# Altium schematic symbol library EL.XXX.T01.SCHLIB: 178 symbols (part 1 of 3)
Pins are listed as number, name and electrical type; pins without a type are passive.

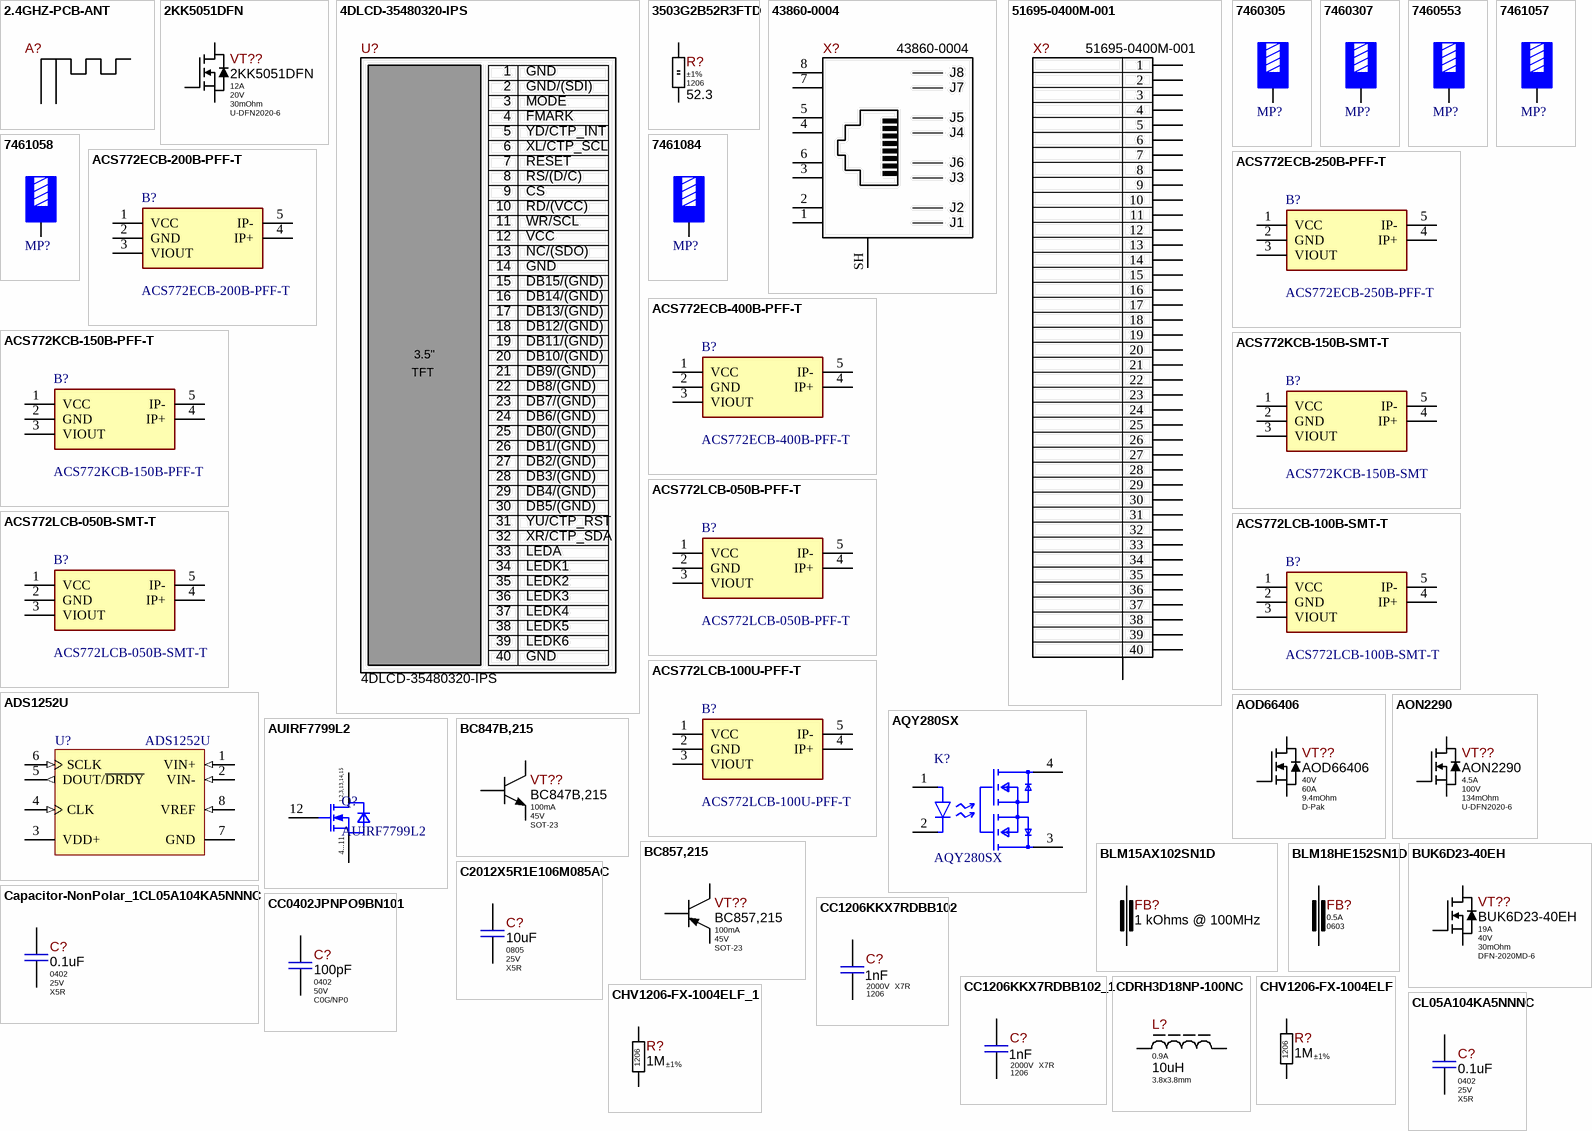
[diagram p0: symbols 2.4GHZ-PCB-ANT to CL05A104KA5NNNC]

## 2.4GHZ-PCB-ANT
designator A?, comment PCB Antenna 2.4GHz  (value not drawn)  (net tie, no BOM)
Part Number: 2.4GHZ-PCB-ANT; Replacement: NONE; Component Type: SMD; Temperature Range: NONE; ComponentLink1URL: NONE; Price: NONE; ComponentLink1Description: Datasheet
footprint PCB ANTENNA 2.4GHZ
pins: 1 FEED, 2 GND

## 2KK5051DFN
designator VT??  Id: 12A  Vds: 20V  Rds: 30mOhm  Package: U-DFN2020-6  (hidden comment: 2KK5051DFN)
20V, 12A max N-Channel Enhancement MOSFET, 12mOhm @ Vgs = 4.5V; Manufacturer: Kexin; Component Status: Released; Replacement: NONE; Part Type: N-Channel; Component Type: SMD; Temperature Range: -55°C ~ 150°C; Price: 0.04; Part Number: 2KK5051DFN
footprint U-DFN2020-6_SLDR
footprint U-DFN2020-6
pins: D Drain, G Gate, S Source

## 4DLCD-35480320-IPS
designator U?
3.5 Inch TFT LCD Module, 320x480, IPS MCU, 16-bit/SPI; Manufacturer: 4D LCD; Component Status: Review_1; Replacement: NONE; Part Type: LCD / Panel; ComponentLink1URL: https://resources.4dsystems.com.au/datasheets/4dlcd/4DLCD-35480320-IPS/4DLCD-35480320-IPS_Series_Datasheet_R_1_3.pdf; Price: NONE; ComponentLink1Description: Datasheet; Part Number: 4DLCD-35480320-IPS
footprint Dummy
text: 1; GND; 2; GND/(SDI); 3; MODE; 4; FMARK; 5; YD/CTP_INT; 6; XL/CTP_SCL; 7; RESET; 8; RS/(D/C); 9; CS; 10; RD/(VCC); 11; WR/SCL; 12; VCC; 13; NC/(SDO); 14; 15; DB15/(GND); 16; DB14/(GND); 17; DB13/(GND); 18; DB12/(GND); 19; DB11/(GND); 3.5"; 20; DB10/(GND); TFT; 21; DB9/(GND); 22; DB8/(GND); 23; DB7/(GND); 24; DB6/(GND); 25; DB0/(GND); 26; DB1/(GND); 27; DB2/(GND); 28; DB3/(GND); 29; DB4/(GND); 30; DB5/(GND); 31; YU/CTP_RST; 32; XR/CTP_SDA; 33; LEDA; 34; LEDK1; 35; LEDK2; 36; LEDK3; 37; LEDK4; 38; LEDK5; 39; LEDK6; 40

## 3503G2B52R3FTD
designator R?, comment Tolerance: ±1%  Package: 1206  (hidden comment: 52.3)
52.3 Ohms ±1%, 2 W 1206 Thin Film Resistor; Part Number: 3503G2B52R3FTD; Manufacturer: TE Connectivity; Power Rating: 2W; Voltage: 100V; Component Status: Released; Temperature Stability: ±50ppm/°C; Replacement: NONE; Component Type: SMD; Part Type: Thin Film; Temperature Range: -55°C ~ 155°C; ComponentLink1URL: https://eu.mouser.com/datasheet/2/418/9/ENG_DS_1773270_4_A-3347282.pdf; Supplier 1: Digi-Key; Supplier Part Number 1: 1712-3503G2B52R3FTDTR-ND; Price: NONE; ComponentLink1Description: Datasheet; Value: 52.3
footprint R_ANY_CHIP_1206_MED
footprint R_ANY_CHIP_1206_HI
pins: 1, 2

## 43860-0004
designator X?
RJ45 8P8C Shielded Cat 3 10 Base-T Connector; Manufacturer: Molex; Component Status: Released; Replacement: NONE; Part Type: RJ-45; Component Type: PTH; Temperature Range: -40°C ~ 85°C; ComponentLink1URL: https://www.molex.com/pdm_docs/sd/438600004_sd.pdf; Supplier 1: Mouser; Supplier Part Number 1: 538-43860-0004; Price: 2.1435; ComponentLink1Description: Datasheet; Part Number: 43860-0004
footprint 43860-0004
pins: 1 TD4-, 2 TD4+, 3 TD3-, 4 TD3+, 5 CT, 6 CT, 7 TD2-, 8 TD2+, SH Shield
text: J8; J7; J5; J4; J6; J3; J2; J1

## 51695-0400M-001
designator X?
40 pin FFC/FPC Connector, 0.50mm Pitch, 51695 Series, Right-Angle, Bottom Contact, 1.23mm Height, SMD; Manufacturer: Aces Electronics; Replacement: NONE; Part Type: FFC/FPC; Component Type: SMD; Temperature Range: -40°C ~ 85°C; Price: NONE; Part Number: 51695-0400M-001
footprint 51695-040-0M-001
pins: 1, 2, 3, 4, 5, 6, 7, 8, 9, 10, 11, 12, 13, 14, 15, 16, 17, 18, 19, 20, 21, 22, 23, 24, 25, 26, 27, 28, 29, 30, 31, 32, 33, 34, 35, 36, 37, 38, 39, 40, MP MountPad

## 7460305
designator MP?, comment M5 x 6mm  (value not drawn)
WP-BUTR REDCUBE PRESS-FIT with internal thread, two-rows, L9W9H7mm, M5 x 6mm, 160A; Manufacturer Part Number: 7460305; Manufacturer: Wurth Elektronik; Surface: Tin; ComponentLink1Description: Website Link; ComponentLink1URL: https://www.we-online.com/redexpert/article/7460305?ad; ComponentLink2Description: Datasheet Link; ComponentLink2URL: https://www.we-online.com/redexpert/spec/7460305?ad; Category: REDCUBE PRESS-FIT; Match Code: WP-BUTR; Mount: Press Fit; Operating Temperature Max: 150°C; Operating Temperature Min: -55°C; Packaging: Bulk; Length: 9mm; Width: 9mm; Height: 7mm; Material: Brass; Number of Pins: 8; Rated Current: 160A; Thread Length: 6mm; Thread Size: M5; Supplier 1: Mouser; Supplier Part Number 1: 710-7460305
footprint 7460305_chemical surface
footprint 7460305_HAL
pins: 1

## 7460307
designator MP?, comment M4 x 6mm  (value not drawn)
WP-BUTR REDCUBE PRESS-FIT with internal thread, two-rows, L9W9H7mm, M4 x 6mm, 160A; Manufacturer Part Number: 7460307; Manufacturer: Wurth Elektronik; Surface: Tin; ComponentLink1Description: Website Link; ComponentLink1URL: https://www.we-online.com/redexpert/article/7460307?ad; ComponentLink2Description: Datasheet Link; ComponentLink2URL: https://www.we-online.com/redexpert/spec/7460307?ad; Category: REDCUBE PRESS-FIT; Match Code: WP-BUTR; Mount: Press Fit; Operating Temperature Max: 150°C; Operating Temperature Min: -55°C; Packaging: Bulk; Length: 9mm; Width: 9mm; Height: 7mm; Material: Brass; Number of Pins: 8; Rated Current: 160A; Thread Length: 6mm; Thread Size: M4; Supplier 1: Mouser; Supplier Part Number 1: 710-7460307
footprint 7460307_chemical surface
footprint 7460307_HAL
pins: 1

## 7460553
designator MP?, comment M8 x 10mm  (value not drawn)
WP-BUTR REDCUBE PRESS-FIT with internal thread, two-rows, L13W13H13.5mm, M8 x 10mm, 240A; Manufacturer Part Number: 7460553; Manufacturer: Wurth Elektronik; Surface: Tin; ComponentLink1Description: Website Link; ComponentLink1URL: https://www.we-online.com/redexpert/article/7460553?ad; ComponentLink2Description: Datasheet Link; ComponentLink2URL: https://www.we-online.com/redexpert/spec/7460553?ad; Category: REDCUBE PRESS-FIT; Match Code: WP-BUTR; Mount: Press Fit; Operating Temperature Max: 150°C; Operating Temperature Min: -55°C; Packaging: Bulk; Length: 13mm; Width: 13mm; Height: 13.5mm; Material: Brass; Number of Pins: 10; Rated Current: 240A; Thread Length: 10mm; Thread Size: M8; Supplier 1: Mouser; Supplier Part Number 1: 710-7460553
footprint 7460553_chemical surface
footprint 7460553_HAL
pins: 1

## 7461057
designator MP?, comment M3 x 5mm  (value not drawn)
WP-BUTR REDCUBE PRESS-FIT with internal thread, two-rows, L7W7H6mm, M3 x 5mm, 100A; Manufacturer Part Number: 7461057; Manufacturer: Wurth Elektronik; Surface: Tin; ComponentLink1Description: Website Link; ComponentLink1URL: https://www.we-online.com/redexpert/article/7461057?ad; ComponentLink2Description: Datasheet Link; ComponentLink2URL: https://www.we-online.com/redexpert/spec/7461057?ad; Category: REDCUBE PRESS-FIT; Match Code: WP-BUTR; Mount: Press Fit; Operating Temperature Max: 150°C; Operating Temperature Min: -55°C; Packaging: Bulk; Length: 7mm; Width: 7mm; Height: 6mm; Material: Brass; Number of Pins: 6; Rated Current: 100A; Thread Length: 5mm; Thread Size: M3; Supplier 1: Mouser; Supplier Part Number 1: 710-7461057
footprint 7461057_chemical surface
footprint 7461057_HAL
pins: 1

## 7461058
designator MP?, comment M10 x 11mm  (value not drawn)
WP-BUTR REDCUBE PRESS-FIT with internal thread, two-rows, L16W16H17.5mm, M10 x 11mm, 320A; Manufacturer Part Number: 7461058; Manufacturer: Wurth Elektronik; Surface: Tin; ComponentLink1Description: Website Link; ComponentLink1URL: https://www.we-online.com/redexpert/article/7461058?ad; ComponentLink2Description: Datasheet Link; ComponentLink2URL: https://www.we-online.com/redexpert/spec/7461058?ad; Category: REDCUBE PRESS-FIT; Match Code: WP-BUTR; Mount: Press Fit; Operating Temperature Max: 150°C; Operating Temperature Min: -55°C; Packaging: Bulk; Length: 16mm; Width: 16mm; Height: 17.5mm; Material: Brass; Number of Pins: 12; Rated Current: 320A; Thread Length: 11mm; Thread Size: M10; Supplier 1: Mouser; Supplier Part Number 1: 710-7461058
footprint 7461058_chemical surface
footprint 7461058_HAL
pins: 1

## 7461084
designator MP?, comment M6 x 9mm  (value not drawn)
WP-BUTR REDCUBE PRESS-FIT with internal thread, two-rows, L10W10H13.5mm, M6 x 9mm, 160A; Manufacturer Part Number: 7461084; Manufacturer: Wurth Elektronik; Surface: Tin; ComponentLink1Description: Website Link; ComponentLink1URL: https://www.we-online.com/redexpert/article/7461084?ad; ComponentLink2Description: Datasheet Link; ComponentLink2URL: https://www.we-online.com/redexpert/spec/7461084?ad; Category: REDCUBE PRESS-FIT; Match Code: WP-BUTR; Mount: Press Fit; Operating Temperature Max: 150°C; Operating Temperature Min: -55°C; Packaging: Bulk; Length: 10mm; Width: 10mm; Height: 13.5mm; Material: Brass; Number of Pins: 8; Rated Current: 160A; Thread Length: 9mm; Thread Size: M6; Supplier 1: Mouser; Supplier Part Number 1: 710-7461084
footprint 7461084_chemical surface
footprint 7461084_HAL
pins: 1

## ACS772ECB-200B-PFF-T
designator B?
200kHz, 1.5% Max Tolerance, 100  Internal Resistance Module-alternative Current Sensor for High Current and High Voltage Applications; Current Rating: 200 A; Sensor Type: Current Sense; Accuracy: 1 %; Response Time: 2.5 us; Output Type: Analog; Supply Voltage: 4.5 V to 5.5 V; ComponentLink1Description: Datasheet; ComponentLink1URL: https://eu.mouser.com/datasheet/2/1115/ACS772_Datasheet-3074305.pdf; Part Number: ACS772ECB-200B-PFF-T; Supplier 1: Mouser; Supplier Part Number 1: 250-772ECB200BPFFT; Parameter 6: *; Parameter 7: *; Frequency Range: 200 kHz; Type: Hall-Effect
footprint ACS772KCB_XXX_PFF_T
pins: 1 VCC, 2 GND, 3 VIOUT, 4 IP+, 5 IP-

## ACS772ECB-250B-PFF-T
designator B?
200kHz, 1.5% Max Tolerance, 100  Internal Resistance Module-alternative Current Sensor for High Current and High Voltage Applications; Current Rating: 250 A; Sensor Type: Current Sense; Accuracy: 1 %; Response Time: 2.5 us; Output Type: Analog; Supply Voltage: 4.5 V to 5.5 V; ComponentLink1Description: Datasheet; ComponentLink1URL: https://eu.mouser.com/datasheet/2/1115/ACS772_Datasheet-3074305.pdf; Part Number: ACS772ECB-250B-PFF-T; Supplier 1: Mouser; Supplier Part Number 1: 250-CS772ECB250BPFFT; Parameter 6: *; Parameter 7: *; Frequency Range: 200 kHz; Type: Hall-Effect
footprint ACS772KCB_XXX_PFF_T
pins: 1 VCC, 2 GND, 3 VIOUT, 4 IP+, 5 IP-

## ACS772ECB-400B-PFF-T
designator B?
200kHz, 1.5% Max Tolerance, 100  Internal Resistance Module-alternative Current Sensor for High Current and High Voltage Applications; Current Rating: 400 A; Sensor Type: Current Sense; Accuracy: 1 %; Response Time: 2.5 us; Output Type: Analog; Supply Voltage: 4.5 V to 5.5 V; ComponentLink1Description: Datasheet; ComponentLink1URL: https://eu.mouser.com/datasheet/2/1115/ACS772_Datasheet-3074305.pdf; Part Number: ACS772ECB-400B-PFF-T; Supplier 1: Mouser; Supplier Part Number 1: 250-772ECB400BPFFT; Parameter 6: *; Parameter 7: *; Frequency Range: 200 kHz; Type: Hall-Effect
footprint ACS772KCB_XXX_PFF_T
pins: 1 VCC, 2 GND, 3 VIOUT, 4 IP+, 5 IP-

## ACS772KCB-150B-PFF-T
designator B?
200kHz, 1.5% Max Tolerance, 100  Internal Resistance Module-alternative Current Sensor for High Current and High Voltage Applications; Current Rating: 150 A; Sensor Type: Current Sense; Accuracy: 1 %; Response Time: 2.5 us; Output Type: Analog; Supply Voltage: 4.5 V to 5.5 V; ComponentLink1Description: Datasheet; ComponentLink1URL: https://eu.mouser.com/datasheet/2/1115/ACS772_Datasheet-3074305.pdf; Part Number: ACS772KCB-150B-PFF-T; Supplier 1: Mouser; Supplier Part Number 1: 250-772KCB150BPFFT; Parameter 6: *; Parameter 7: *; Frequency Range: 200 kHz; Type: Hall-Effect
footprint ACS772KCB_XXX_PFF_T
pins: 1 VCC, 2 GND, 3 VIOUT, 4 IP+, 5 IP-

## ACS772KCB-150B-SMT-T
designator B?, comment ACS772KCB-150B-SMT
200kHz, 1.5% Max Tolerance, 100  Internal Resistance Module-alternative Current Sensor for High Current and High Voltage Applications; Part Number: ACS772KCB-150B-SMT-T; Current Rating: 150 A; Sensor Type: Current Sense; Accuracy: 1 %; Response Time: 2.5 us; Output Type: Analog; Supply Voltage: 4.5 V to 5.5 V; ComponentLink1Description: Datasheet; ComponentLink1URL: https://eu.mouser.com/datasheet/2/1115/ACS772_Datasheet-3074305.pdf; Supplier 1: Mouser; Supplier Part Number 1: 250-772KCB150BSMTT; Parameter 6: *; Parameter 7: *; Frequency Range: 200 kHz; Type: Hall-Effect
footprint ACS772KCB_XXX_SMT_T
pins: 1 VCC, 2 GND, 3 VIOUT, 4 IP+, 5 IP-

## ACS772LCB-050B-PFF-T
designator B?
200kHz, 1.5% Max Tolerance, 100  Internal Resistance Module-alternative Current Sensor for High Current and High Voltage Applications; Current Rating: 50 A; Sensor Type: Current Sense; Accuracy: 1 %; Response Time: 2.5 us; Output Type: Analog; Supply Voltage: 4.5 V to 5.5 V; ComponentLink1Description: Datasheet; ComponentLink1URL: https://eu.mouser.com/datasheet/2/1115/ACS772_Datasheet-3074305.pdf; Part Number: ACS772LCB-050B-PFF-T; Supplier 1: Mouser; Supplier Part Number 1: 250-772LCB050BPFFT; Parameter 6: *; Parameter 7: *; Frequency Range: 200 kHz; Type: Hall-Effect
footprint ACS772KCB_XXX_PFF_T
pins: 1 VCC, 2 GND, 3 VIOUT, 4 IP+, 5 IP-

## ACS772LCB-050B-SMT-T
designator B?
200kHz, 1.5% Max Tolerance, 100  Internal Resistance Module-alternative Current Sensor for High Current and High Voltage Applications; Current Rating: 50 A; Sensor Type: Current Sense; Accuracy: 1 %; Response Time: 2.5 us; Output Type: Analog; Supply Voltage: 4.5 V to 5.5 V; ComponentLink1Description: Datasheet; ComponentLink1URL: https://eu.mouser.com/datasheet/2/1115/ACS772_Datasheet-3074305.pdf; Part Number: ACS772LCB-050B-SMT-T; Supplier 1: Mouser; Supplier Part Number 1: 250-772LCB050BSMTT; Parameter 6: *; Parameter 7: *; Frequency Range: 200 kHz; Type: Hall-Effect
footprint ACS772KCB_XXX_SMT_T
pins: 1 VCC, 2 GND, 3 VIOUT, 4 IP+, 5 IP-

## ACS772LCB-100B-SMT-T
designator B?
200kHz, 1.5% Max Tolerance, 100  Internal Resistance Module-alternative Current Sensor for High Current and High Voltage Applications; Part Number: ACS772KCB-150B-SMT-T; Current Rating: 100 A; Sensor Type: Current Sense; Accuracy: 1 %; Response Time: 2.5 us; Output Type: Analog; Supply Voltage: 4.5 V to 5.5 V; ComponentLink1Description: Datasheet; ComponentLink1URL: https://eu.mouser.com/datasheet/2/1115/ACS772_Datasheet-3074305.pdf; Supplier 1: Mouser; Supplier Part Number 1: 250-772LCB100BSMTT; Parameter 6: *; Parameter 7: *; Frequency Range: 200 kHz; Type: Hall-Effect
footprint ACS772KCB_XXX_SMT_T
pins: 1 VCC, 2 GND, 3 VIOUT, 4 IP+, 5 IP-

## ACS772LCB-100U-PFF-T
designator B?
200kHz, 1.5% Max Tolerance, 100  Internal Resistance Module-alternative Current Sensor for High Current and High Voltage Applications; Current Rating: 100 A; Sensor Type: Current Sense; Accuracy: 1 %; Response Time: 2.5 us; Output Type: Analog; Supply Voltage: 4.5 V to 5.5 V; ComponentLink1Description: Datasheet; ComponentLink1URL: https://eu.mouser.com/datasheet/2/1115/ACS772_Datasheet-3074305.pdf; Part Number: ACS772LCB-100U-PFF-T; Supplier 1: Mouser; Supplier Part Number 1: 250-772LCB100UPFFT; Parameter 6: *; Parameter 7: *; Frequency Range: 200 kHz; Type: Hall-Effect
footprint ACS772KCB_XXX_SMT_T
pins: 1 VCC, 2 GND, 3 VIOUT, 4 IP+, 5 IP-

## ADS1252U
designator U?
ResolutionPlus 24-Bit, 40 kHz ADC, -40 to 85 degC, 8-pin SOIC (D8), Green (RoHS & no Sb/Br); Manufacturer: Texas Instruments; Analog Voltage AV/DD(Max)(V): 5.25; # Input Channels: 1; Architecture: Delta-Sigma; Sample Rate (max)(SPS): 41k; Digital Supply(Min)(V): 4.75; Resolution(Bits): 24; Interface: Serial SPI; SubFamily: Precision ADC (<=10MSPS); ComponentLink1URL: http://www.ti.com/; Code_JEDEC: MS-012; ComponentLink3Description: Package Specification; PackageVersion: 4040047-3/M, 06/2011; PackageReference: D8; ComponentLink2URL: http://www.ti.com/general/docs/lit/getliterature.tsp?genericPartNumber=ADS1252&fileType=pdf; INL(Max)(+/-LSB): 1; DatasheetVersion: SBAS127D; ComponentLink3URL: http://www.ti.com/litv/pdf/msoi002j; Mounting Technology: Surface Mount; ComponentLink1Description: Manufacturer URL; PackageDescription: 8-Pin Plastic Small Outline, Body 4.9 x 3.9 mm, Pitch 1.27 mm; PartNumber: ADS1252U; Analog Voltage AV/DD(Min)(V): 4.75; ComponentLink2Description: Datasheet; Eco-Plan: Green (RoHS & no Sb/Br); Digital Supply(Max)(V): 5.25; Part Number: ADS1252U; Supplier 1: Mouser; Supplier Part Number 1: 595-ADS1252U
footprint TI-D8_M (SOIC, 8-Leads, Body 4.9x3.9mm, Pitch 1.27mm, IPC Low Density)
footprint TI-D8_L (SOIC, 8-Leads, Body 4.9x3.9mm, Pitch 1.27mm, IPC High Density)
footprint TI-D8_N (SOIC, 8-Leads, Body 4.9x3.9mm, Pitch 1.27mm, IPC Medium Density)
footprint TI-D8_M
pins: 1 VIN+ (in) "Analog Input: Positive Input of the Differential Analog Input", 2 VIN- (in) "Analog Input: Negative Input of the Differential Analog Input.", 3 VDD+ (power) "Input: Power-Supply Voltage, +5V", 4 CLK (in) "Digital Input: Device System Clock. The system clock is in the form of a CMOScompatible clock. This is a Schmitt-Trigger input.", 5 DOUT/~{DRDY} (out), 6 SCLK (in) "Digital Input: Serial Clock. The serial clock is in the form of a CMOS-compatible clock. The serial clock operates independently from the system clock, therefore, it is possible to run SCLK at a higher frequency than CLK. (See Datasheet)", 7 GND (power) "Input: Ground", 8 VREF (in) "Analog Input: Reference Voltage Input"

## AOD66406
designator VT??  Vds: 40V  Id: 60A  Rds: 9.4mOhm  Package: D-Pak  (hidden comment: AOD66406)
40V, 60A max N-Channel AlphaSGT Power MOSFET, 6.1mOhm @ Vgs = 10V; Manufacturer: Alpha & Omega Semiconductor Inc.; Component Status: Released; Standard Lead Time: 16 Weeks; Replacement: NONE; Part Number: AOD66406; Part Type: N-Channel; Component Type: SMD; Temperature Range: -55°C ~ 150°C; ComponentLink1URL: https://www.aosmd.com/res/datasheets/AOI66406.pdf; Supplier 1: Digi-Key; Supplier Part Number 1: 785-AOD66406TR-ND; Price: 0.14350545; ComponentLink1Description: Datasheet
footprint DPAK_REC
footprint DPAK
pins: 1 G, 2 D, 3 S

## AON2290
designator VT??  Id: 4.5A  Vds: 100V  Rds: 134mOhm  Package: U-DFN2020-6  (hidden comment: AON2290)
100V, 4.5A max N-Channel AdvancedTrench MOSFET, 59mOhm @ Vgs = 10V; Manufacturer: Alpha & Omega Semiconductor Inc.; Component Status: Review_1; Standard Lead Time: 42 Weeks; Replacement: NONE; Part Number: AON2290; Part Type: N-Channel; Component Type: SMD; Temperature Range: -55°C ~ 150°C; Supplier 1: Digi-Key; Supplier Part Number 1: 785-1606-2-ND; Price: 0.08707521
footprint U-DFN2020-6-HV
pins: D Drain, G Gate, S Source

## AQY280SX
designator K?
AQY280SX AQY Photomos Series 120 mA 350 V 25 Ohm SMT 1 Channel Solid State Relay -SOP-4; NexarPartId: 695349; Output Current: 120mA; Throw Configuration: DPST, SPST; Resistance: 25Ω; Max Input Current: 50mA; Max Output Voltage: 350V; Isolation Voltage: 1.5kV; Termination: Gull Wing; Number of Pins: 4; Max Output Current: 120mA; RoHS: Compliant; Mount: Surface Mount; Radiation Hardening: No; Max Operating Temperature: 85°C; Height: 2.1mm; Case/Package: SOP; Forward Current: 50mA; Input Current: 50mA; Lead Free: Lead Free; Length: 4.4mm; Width: 4.3mm; Min Operating Temperature: -40°C; Output Voltage: 350V; Relay Type: Relay; Load Current: 120mA; Part Number: AQY280SX; Supplier 1: Mouser; Supplier Part Number 1: 769-AQY280SX
footprint FP-AQY280SX-MFG (AQY Photomos Series 120 mA 350 V 25 Ohm SMT 1 Channel Solid State Relay -SOP-4)
pins: 1 A, 2 C, 3 1 DRAIN, 4 2 DRAIN

## AUIRF7799L2
designator Q?
Insulated-Gate Field-Effect Transistor (IGFET), N-Channel / MOSFETs DirectFET 2 250V 35A 38mOhm Automotive; Part Number: AUIRF7799L2TR; Manufacturer: Infineon; Rds On: 32 mOhm; Qg: 110 nC; Vgs: - 30 V, + 30 V; Vgs th: 4 V; Pd: 125; Max T: 175 C; Turn-On Delay: 36.3 ns; Turn-Off Delay: 73.9 ns; ComponentLink1Description: Datasheet; ComponentLink1URL: https://eu.mouser.com/datasheet/2/196/auirf7799l2-1730908.pdf; Supplier 1: Mouser; Supplier Part Number 1: 942-AUIRF7799L2TR; Product Category: MOSFETs; Transistor Polarity: N-Channel; Mounting Style: SMD/SMT; Package/Case: DirectFET-L8; Vds: 250V; Id: 35A
footprint DIRECTFET-L8-V
pins: 1 DRAIN1, 2 DRAIN2, 3 DRAIN3, 4 SOURCE1, 5 SOURCE2, 6 SOURCE3, 7 SOURCE4, 8 SOURCE5, 9 SOURCE6, 10 SOURCE7, 11 SOURCE8, 12 GATE, 13 DRAIN4, 14 DRAIN5, 15 DRAIN6
text: 1,2,3,13,14,15; 4...11

## BC847B,215
designator VT??, comment Part Number: BC847B,215  Ic: 100mA  Vce: 45V  Package: SOT-23  (hidden comment: BC847B)
45V, 100mA NPN General Purpose Transistor; Manufacturer: Nexperia USA; Component Status: Released; Standard Lead Time: 4 Weeks; Replacement: NONE; Part Type: NPN; Component Type: SMD; Temperature Range: -65°C ~ 150°C; ComponentLink1URL: https://assets.nexperia.com/documents/data-sheet/BC847_SER.pdf; Supplier 1: Digi-Key; Supplier Part Number 1: 1727-2921-2-ND; Price: 0.02426013; ComponentLink1Description: Datasheet
footprint SOT-23_MED
footprint SOT-23_HI
pins: 1 B, 2 E, 3 C

## BC857,215
designator VT??, comment Part Number: BC857,215  Ic: 100mA  Vce: 45V  Package: SOT-23  (hidden comment: BC857)
-45V, 100mA PNP General Purpose Transistor, hFE 125 ~ 800; Manufacturer: Nexperia USA; Component Status: Released; Standard Lead Time: 16 Weeks; Replacement: NONE; Part Type: PNP; Component Type: SMD; Temperature Range: -65°C ~ 150°C; ComponentLink1URL: https://assets.nexperia.com/documents/data-sheet/BC856_BC857_BC858.pdf; Supplier 1: Digi-Key; Supplier Part Number 1: 1727-4872-2-ND; Price: 0.04; ComponentLink1Description: Datasheet
footprint SOT-23_MED
footprint SOT-23_HI
pins: 1 B, 2 E, 3 C

## BLM15AX102SN1D
designator FB?  value 1 kOhms @ 100MHz  (hidden comment: BLM15AX102SN1D)
1 kOhms @ 100MHz Ferrite Bead 0402, 350mA 490mOhm; Manufacturer: Murata Electronics; Current: 0.35A; Saturation Current: NONE; Tolerance: ±25%; Standard Lead Time: 7 Weeks; Component Status: Released; Package: 0402; Part Number: BLM15AX102SN1D; Part Type: Ferrite Bead; Component Type: SMD; Temperature Range: -55°C ~ 125°C; ComponentLink1URL: https://www.murata.com/en-us/products/productdata/8796740059166/ENFA0018.pdf; Supplier 1: Digi-Key; Supplier Part Number 1: 490-5442-2-ND; Replacement: NONE; Price: 0.00265; ComponentLink1Description: Datasheet
footprint BLM15xxxxxSN1x_MED
footprint BLM15xxxxxSN1x_HI
pins: 1, 2

## BLM18HE152SN1D
designator FB?  Current: 0.5A  Package: 0603  (hidden comment: BLM18HE152SN1D)
1.5 kOhms @ 100MHz 1 Signal Line Ferrite Bead 0603, 500mA 500mOhm; Manufacturer: Murata Electronics; Saturation Current: NONE; Tolerance: ±25%; Standard Lead Time: 8 Weeks; Component Status: Released; Value: 1.5 kOhms @ 100MHz; Part Number: BLM18HE152SN1D; Part Type: Ferrite Bead; Component Type: SMD; Temperature Range: -55°C ~ 125°C; ComponentLink1URL: https://www.murata.com/en-us/products/productdata/8796741599262/ENFA0004.pdf; Supplier 1: Digi-Key; Supplier Part Number 1: 490-5216-2-ND; Replacement: NONE; Price: 0.01416; ComponentLink1Description: Datasheet
footprint BLM18HxxxxSN1x_MED
footprint BLM18HxxxxSN1x_HI
pins: 1, 2

## BUK6D23-40EH
designator VT??  Id: 19A  Vds: 40V  Rds: 30mOhm  Package: DFN-2020MD-6  (hidden comment: BUK6D23-40EH)
40V, 19A max N-Channel Trench MOSFET, 22mOhm @ Vgs = 4.5V; Manufacturer: Nexperia USA; Component Status: Released; Standard Lead Time: 8 Weeks; Replacement: NONE; Part Number: BUK6D23-40EH; Part Type: N-Channel; Component Type: SMD; Temperature Range: -55°C ~ 175°C; ComponentLink1URL: https://eu.mouser.com/datasheet/2/916/BUK6D23_40E-1318709.pdf; Supplier 1: Mouser; Supplier Part Number 1: 771-BUK6D23-40EH; Price: NONE; ComponentLink1Description: Datasheet
footprint U-DFN2020-6_SLDR
footprint U-DFN2020-6
pins: D Drain, G Gate, S Source

## C2012X5R1E106M085AC
designator C?, comment Package: 0805  Voltage: 25V  Dielectric Type: X5R  (hidden comment: 10uF)
10uF 25V X5R ±20% 0805 Ceramic Capacitor RoHS; Part Number: C2012X5R1E106M085AC; Manufacturer: TDK Corporation; Standard Lead Time: 12 Weeks; Component Status: Released; Replacement: NONE; Ajax_1С_Lifecycle: Archived; Part Type: Ceramic / X5R / 0805; Component Type: SMD; Temperature Range: -55°C ~ 85°C; Tolerance: ±20%; ComponentLink1URL: https://product.tdk.com/info/en/catalog/datasheets/mlcc_commercial_general_en.pdf; Supplier 1: Digi-Key; Supplier Part Number 1: 445-14388-1-ND; ComponentLink1Description: Datasheet; Price: 0.185; Value: 10uF
footprint CAP-0805(2012)X85T10
pins: 1, 2

## Capacitor-NonPolar_1CL05A104KA5NNNC
designator C?, comment Package: 0402  Voltage: 25V  Dielectric Type: X5R  (hidden comment: 0.1uF)
100nF 25V X5R ±10% 0402 Ceramic Capacitor RoHS; Part Number: CL05A104KA5NNNC; Manufacturer: Samsung Electro-Mechanics; Ajax_1C_ID: 27170; Ajax_1C_PN: 100nF 25V X5R 10% 0402 CL05A104KA5NNNC Ceramic Capacitor SMD RoHS; Standard Lead Time: 38 Weeks; Replacement: NONE; Ajax_1С_Status: Mass Production; Component Status: Released; GUID_1C: 6c9121f0-7733-11eb-ab70-0050569f2651; Part Type: Ceramic / X5R / 0402; Component Type: SMD; Temperature Range: -55°C ~ 85°C; Tolerance: ±10%; ComponentLink1URL: https://eu.mouser.com/datasheet/2/585/MLCC-1837944.pdf; Supplier 1: Mouser; Supplier Part Number 1: 187-CL05A104KA5NNNC; ComponentLink1Description: Datasheet; Price: 0.0013; Value: 0.1uF
footprint C_CERAMIC_0402_MED
footprint C_CERAMIC_0402_HI
pins: 1, 2

## CC0402JPNPO9BN101
designator C?, comment Package: 0402  Voltage: 50V  Dielectric Type: C0G/NP0  (hidden comment: 100pF)
100pF 50V C0G ±5% 0402 Ceramic Capacitor RoHS; Part Number: CC0402JPNPO9BN101; Manufacturer: Yageo; Standard Lead Time: 12 Weeks; Component Status: Released; Replacement: NONE; Part Type: Ceramic / C0G(NP0) / 0402; Component Type: SMD; Temperature Range: -55°C ~ 125°C; Tolerance: ±5%; ComponentLink1URL: https://eu.mouser.com/datasheet/2/447/UPY_NP0X5R_01005_4V_to_25V_V10-3003057.pdf; Supplier 1: Mouser; Supplier Part Number 1: 603-CC402JPNPO9BN101; Price: 0.00092012; ComponentLink1Description: Datasheet; Value: 100pF
footprint C_CERAMIC_0402_MED
footprint C_CERAMIC_0402_HI
pins: 1, 2

## CC1206KKX7RDBB102
designator C?, comment Package: 1206  Voltage: 2000V  Dielectric Type: X7R  (hidden comment: 1nF)
1nF 2000V X7R ±10% 1206 Ceramic Capacitor RoHS; Part Number: CC1206KKX7RDBB102; Manufacturer: Yageo; Replacement: NONE; Part Type: Ceramic / X7R / 1206; Component Type: SMD; Temperature Range: -55°C ~ 125°C; Tolerance: ±10%; ComponentLink1URL: https://www.yageo.com/upload/media/product/products/datasheet/mlcc/UPY-NP0X7R_HV_1KV-to-3KV_11.pdf; Supplier 1: Digi-Key; Supplier Part Number 1: 311-1487-2-ND; ComponentLink1Description: Datasheet; Value: 1nF
footprint CAP-1206(3216)X125T20
pins: 1, 2

## CC1206KKX7RDBB102_1
designator C?, comment Package: 1206  Voltage: 2000V  Dielectric Type: X7R  (hidden comment: 1nF)
1nF 2000V X7R ±10% 1206 Ceramic Capacitor RoHS; Part Number: CC1206KKX7RDBB102; Manufacturer: Yageo; Replacement: NONE; Part Type: Ceramic / X7R / 1206; Component Type: SMD; Temperature Range: -55°C ~ 125°C; Tolerance: ±10%; ComponentLink1URL: https://www.yageo.com/upload/media/product/products/datasheet/mlcc/UPY-NP0X7R_HV_1KV-to-3KV_11.pdf; Supplier 1: Digi-Key; Supplier Part Number 1: 311-1487-2-ND; ComponentLink1Description: Datasheet; Value: 1nF
footprint CAP-1206(3216)X125T20
pins: 1, 2

## CDRH3D18NP-100NC
designator L?, comment Current: 0.9A  Package: 3.8x3.8mm  (hidden comment: 10uH)
10uH Shielded Power Inductor 900mA 205mOhm Max Nonstandard; Part Number: CDRH3D18NP-100NC; Manufacturer: Sumida; Tolerance: ±30%; Component Status: Released; Standard Lead Time: 28 Weeks; Replacement: NONE; Part Type: Power / Ferrite Core; Saturation Current: 0.9A; Component Type: SMD; Temperature Range: -40°C ~ 105°C; ComponentLink1URL: http://products.sumida.com/products/pdf/CDRH3D18.pdf; Supplier 1: Digi-Key; Supplier Part Number 1: 308-1954-6-ND; Price: 0.19; ComponentLink1Description: Datasheet; Value: 10uH
footprint CDRH3D18
footprint CDRH3D18X
pins: 1, 2

## CHV1206-FX-1004ELF
designator R?, comment Tolerance: ±1%  Package: 1206  (hidden comment: 1M)
1 MOhms ±1%, 1/4W 1206 Thick Film Resistor; Part Number: CHV1206-FX-1004ELF; Manufacturer: Bourns; Power Rating: 0.25W; Voltage: 800V; Component Status: Released; Temperature Stability: ±100ppm/°C; Replacement: NONE; Component Type: SMD; Part Type: Thick Film; Temperature Range: -55°C ~ 155°C; ComponentLink1URL: https://eu.mouser.com/datasheet/2/54/CHV-777595.pdf; Supplier 1: Mouser; Supplier Part Number 1: 652-CHV1206FX1004ELF; Price: 0.0173216; ComponentLink1Description: Datasheet; Value: 1M
footprint CHV1206-Series
footprint R_ANY_CHIP_1206_MED
pins: 1, 2

## CHV1206-FX-1004ELF_1
designator R?, comment Tolerance: ±1%  Package: 1206  (hidden comment: 1M)
1 MOhms ±1%, 1/4W 1206 Thick Film Resistor; Part Number: CHV1206-FX-1004ELF; Manufacturer: Bourns; Power Rating: 0.25W; Voltage: 800V; Component Status: Released; Temperature Stability: ±100ppm/°C; Replacement: NONE; Component Type: SMD; Part Type: Thick Film; Temperature Range: -55°C ~ 155°C; ComponentLink1URL: https://eu.mouser.com/datasheet/2/54/CHV-777595.pdf; Supplier 1: Mouser; Supplier Part Number 1: 652-CHV1206FX1004ELF; Price: 0.0173216; ComponentLink1Description: Datasheet; Value: 1M
footprint CHV1206-Series
footprint R_ANY_CHIP_1206_MED
pins: 1, 2

## CL05A104KA5NNNC
designator C?, comment Package: 0402  Voltage: 25V  Dielectric Type: X5R  (hidden comment: 0.1uF)
100nF 25V X5R ±10% 0402 Ceramic Capacitor RoHS; Part Number: CL05A104KA5NNNC; Manufacturer: Samsung Electro-Mechanics; Standard Lead Time: 38 Weeks; Component Status: Released; Replacement: NONE; Part Type: Ceramic / X5R / 0402; Component Type: SMD; Temperature Range: -55°C ~ 85°C; Tolerance: ±10%; ComponentLink1URL: https://eu.mouser.com/datasheet/2/585/MLCC-1837944.pdf; ComponentLink1Description: Datasheet; Price: 0.0013; Supplier 1: Mouser; Supplier Part Number 1: 187-CL05A104KA5NNNC; Value: 0.1uF
footprint C_CERAMIC_0402_MED
footprint C_CERAMIC_0402_HI
pins: 1, 2

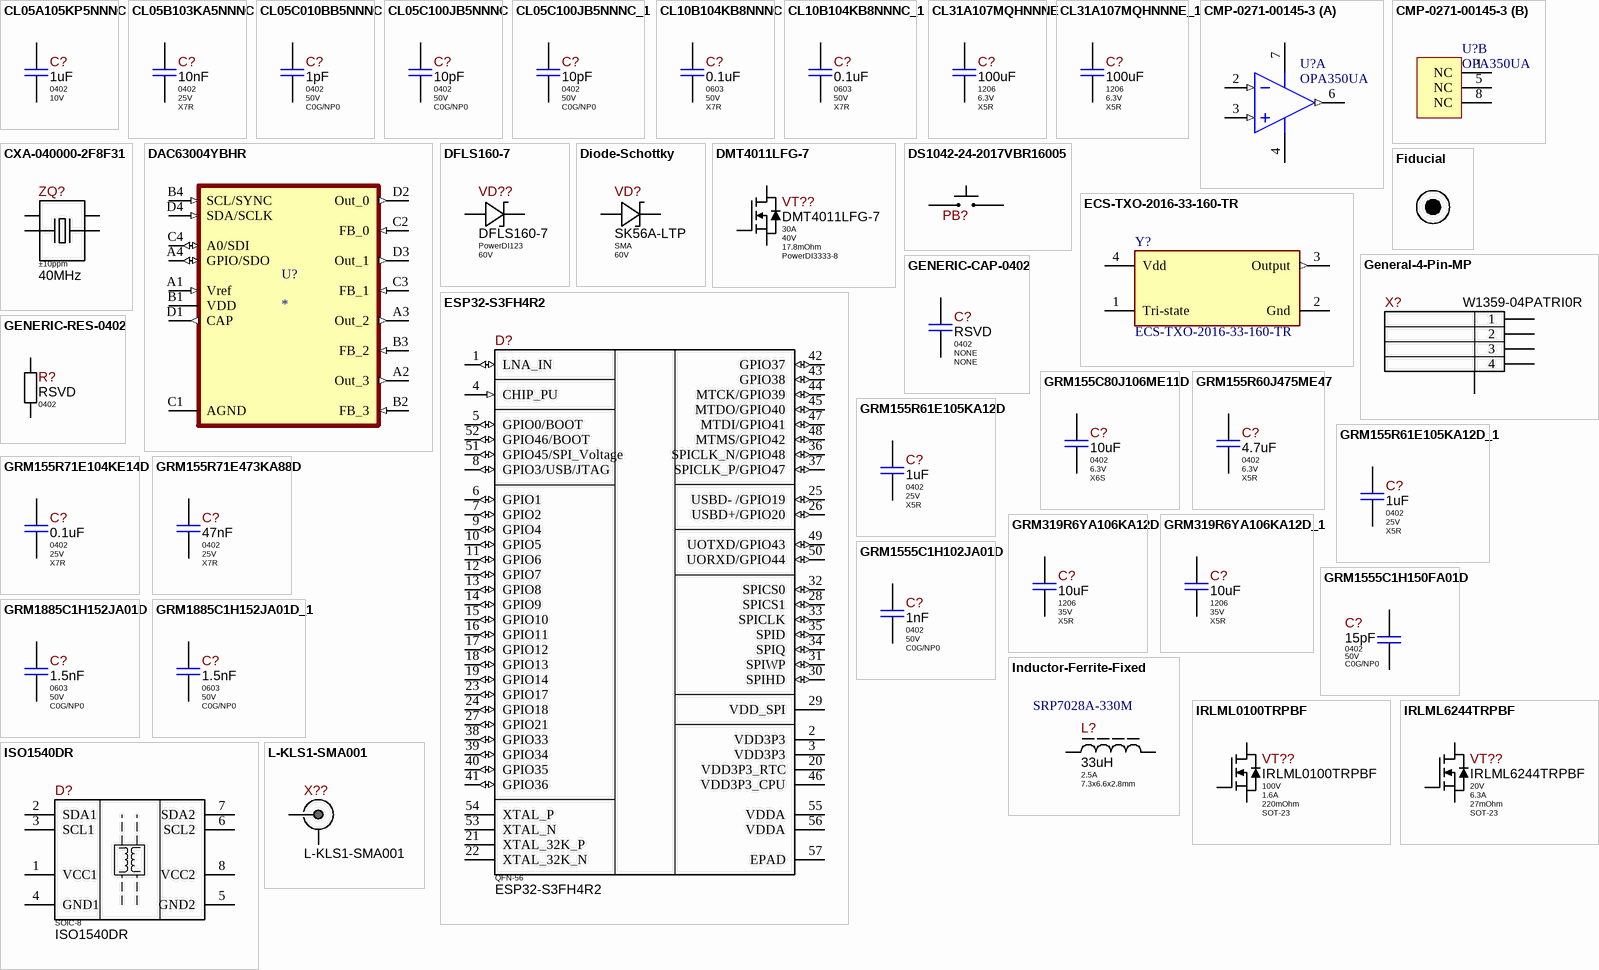
[diagram p1: symbols CL05A105KP5NNNC to L-KLS1-SMA001]

## CL05A105KP5NNNC
designator C?, comment Package: 0402  Voltage: 10V  (hidden comment: 1uF)
1uF 10V Х5R ±10% 0402 Ceramic Capacitor RoHS; Part Number: CL05A105KP5NNNC; Manufacturer: Samsung Electro-Mechanics; Dielectric Type: X5R; Standard Lead Time: 18 Weeks; Replacement: NONE; Component Status: Released; Part Type: Ceramic / X5R / 0402; Component Type: SMD; Temperature Range: -55°C ~ 85°C; Tolerance: ±10%; ComponentLink1URL: https://media.digikey.com/pdf/Data%20Sheets/Samsung%20PDFs/CL_Series_MLCC_ds.pdf; Supplier 1: Digi-Key; Supplier Part Number 1: 1276-1076-2-ND; ComponentLink1Description: Datasheet; Price: 0.00141; Value: 1uF
footprint C_CERAMIC_0402_MED
footprint C_CERAMIC_0402_HI
pins: 1, 2

## CL05B103KA5NNNC
designator C?, comment Package: 0402  Voltage: 25V  Dielectric Type: X7R  (hidden comment: 10nF)
10nF 25V X7R ±10% 0402 Ceramic Capacitor RoHS; Part Number: CL05B103KA5NNNC; Manufacturer: Samsung Electro-Mechanics; Component Status: Released; Standard Lead Time: 28 Weeks; Replacement: NONE; Part Type: Ceramic / X7R / 0402; Component Type: SMD; Temperature Range: -55°C ~ 125°C; Tolerance: ±10%; ComponentLink1URL: https://eu.mouser.com/datasheet/2/585/MLCC-1837944.pdf; Supplier 1: Mouser; Supplier Part Number 1: 187-CL05B103KA5NNNC; Price: 0.00145; ComponentLink1Description: Datasheet; Value: 10nF
footprint C_CERAMIC_0402_MED
footprint C_CERAMIC_0402_HI
pins: 1, 2

## CL05C010BB5NNNC
designator C?, comment value 1pF  Package: 0402  Voltage: 50V  Dielectric Type: C0G/NP0  (hidden comment: 1.0pF)
1.0pF 50V NP0 ±0.1pF 0402 Ceramic Capacitor RoHS; Part Number: CL05C010BB5NNNC; Manufacturer: Samsung Electro-Mechanics; Standard Lead Time: 22 Weeks; Replacement: NONE; Component Status: Released; Part Type: Ceramic / C0G(NP0) / 0402; Component Type: SMD; Temperature Range: -55°C ~ 125°C; Tolerance: ±0.1pF; ComponentLink1URL: https://media.digikey.com/pdf/Data%20Sheets/Samsung%20PDFs/CL_Series_MLCC_ds.pdf; Supplier 1: Digi-Key; Supplier Part Number 1: 1276-1237-2-ND; Price: 0,00237556; ComponentLink1Description: Datasheet
footprint C_CERAMIC_0402_MED
footprint C_CERAMIC_0402_HI
pins: 1, 2

## CL05C100JB5NNNC
designator C?, comment Package: 0402  Voltage: 50V  Dielectric Type: C0G/NP0  (hidden comment: 10pF)
10pF 50V C0G ±5% 0402 Ceramic Capacitor RoHS; Part Number: CL05C100JB5NNNC; Manufacturer: Samsung Electro-Mechanics; Standard Lead Time: 28 Weeks; Replacement: NONE; Component Status: Released; Part Type: Ceramic / C0G(NP0) / 0402; Component Type: SMD; Temperature Range: -55°C ~ 125°C; Tolerance: ±5%; ComponentLink1URL: https://media.digikey.com/pdf/Data%20Sheets/Samsung%20PDFs/CL_Series_MLCC_ds.pdf; Supplier 1: Digi-Key; Supplier Part Number 1: 1276-1139-2-ND; ComponentLink1Description: Datasheet; Price: 0.00145; Value: 10pF
footprint C_CERAMIC_0402_MED
footprint C_CERAMIC_0402_HI
pins: 1, 2

## CL05C100JB5NNNC_1
designator C?, comment Package: 0402  Voltage: 50V  Dielectric Type: C0G/NP0  (hidden comment: 10pF)
10pF 50V C0G ±5% 0402 Ceramic Capacitor RoHS; Part Number: CL05C100JB5NNNC; Manufacturer: Samsung Electro-Mechanics; Standard Lead Time: 28 Weeks; Replacement: NONE; Component Status: Released; Part Type: Ceramic / C0G(NP0) / 0402; Component Type: SMD; Temperature Range: -55°C ~ 125°C; Tolerance: ±5%; ComponentLink1URL: https://media.digikey.com/pdf/Data%20Sheets/Samsung%20PDFs/CL_Series_MLCC_ds.pdf; Supplier 1: Digi-Key; Supplier Part Number 1: 1276-1139-2-ND; ComponentLink1Description: Datasheet; Price: 0.00145; Value: 10pF
footprint C_CERAMIC_0402_MED
footprint C_CERAMIC_0402_HI
pins: 1, 2

## CL10B104KB8NNNC
designator C?, comment Package: 0603  Voltage: 50V  Dielectric Type: X7R  (hidden comment: 0.1uF)
100nF 50V X7R ±10% 0603 Ceramic Capacitor RoHS; Part Number: CL10B104KB8NNNC; Manufacturer: Samsung Electro-Mechanics; Standard Lead Time: 18 Weeks; Replacement: CL10B104KB8NNND; Component Status: Released; Part Type: Ceramic / X7R / 0603; Component Type: SMD; Temperature Range: -55°C ~ 125°C; Tolerance: ±10%; ComponentLink1URL: https://media.digikey.com/pdf/Data%20Sheets/Samsung%20PDFs/CL_Series_MLCC_ds.pdf; Supplier 1: Digi-Key; Supplier Part Number 1: 1276-1000-2-ND; ComponentLink1Description: Datasheet; Price: 0.00273; Value: 0.1uF
footprint C_CERAMIC_0603_MED
footprint C_CERAMIC_0603_HI
pins: 1, 2

## CL10B104KB8NNNC_1
designator C?, comment Package: 0603  Voltage: 50V  Dielectric Type: X7R  (hidden comment: 0.1uF)
100nF 50V X7R ±10% 0603 Ceramic Capacitor RoHS; Part Number: CL10B104KB8NNNC; Manufacturer: Samsung Electro-Mechanics; Standard Lead Time: 18 Weeks; Replacement: CL10B104KB8NNND; Component Status: Released; Part Type: Ceramic / X7R / 0603; Component Type: SMD; Temperature Range: -55°C ~ 125°C; Tolerance: ±10%; ComponentLink1URL: https://media.digikey.com/pdf/Data%20Sheets/Samsung%20PDFs/CL_Series_MLCC_ds.pdf; Supplier 1: Digi-Key; Supplier Part Number 1: 1276-1000-2-ND; ComponentLink1Description: Datasheet; Price: 0.00273; Value: 0.1uF
footprint C_CERAMIC_0603_MED
footprint C_CERAMIC_0603_HI
pins: 1, 2

## CL31A107MQHNNNE
designator C?, comment Package: 1206  Voltage: 6.3V  Dielectric Type: X5R  (hidden comment: 100uF)
100uF 6.3V X5R ±20% 1206 Ceramic Capacitor RoHS; Part Number: CL31A107MQHNNNE; Manufacturer: Samsung Electro-Mechanics; Standard Lead Time: 22 Weeks; Replacement: NONE; Component Status: Released; Part Type: Ceramic / X5R / 1206; Component Type: SMD; Temperature Range: -55°C ~ 85°C; Tolerance: ±20%; ComponentLink1URL: https://media.digikey.com/pdf/Data%20Sheets/Samsung%20PDFs/CL_Series_MLCC_ds.pdf; Supplier 1: Digi-Key; Supplier Part Number 1: 1276-1782-2-ND; ComponentLink1Description: Datasheet; Price: 0,05600243; Value: 100uF
footprint C_CERAMIC_1206_MED
footprint C_CERAMIC_1206_HI
pins: 1, 2

## CL31A107MQHNNNE_1
designator C?, comment Package: 1206  Voltage: 6.3V  Dielectric Type: X5R  (hidden comment: 100uF)
100uF 6.3V X5R ±20% 1206 Ceramic Capacitor RoHS; Part Number: CL31A107MQHNNNE; Manufacturer: Samsung Electro-Mechanics; Standard Lead Time: 22 Weeks; Replacement: NONE; Component Status: Released; Part Type: Ceramic / X5R / 1206; Component Type: SMD; Temperature Range: -55°C ~ 85°C; Tolerance: ±20%; ComponentLink1URL: https://media.digikey.com/pdf/Data%20Sheets/Samsung%20PDFs/CL_Series_MLCC_ds.pdf; Supplier 1: Digi-Key; Supplier Part Number 1: 1276-1782-2-ND; ComponentLink1Description: Datasheet; Price: 0,05600243; Value: 100uF
footprint C_CERAMIC_1206_MED
footprint C_CERAMIC_1206_HI
pins: 1, 2

## CMP-0271-00145-3
designator U?, comment OPA350UA
High-Speed, Single-Supply, Rail-to-Rail Operational Amplifier MicroAmplifier(TM) Series, 2.7 to 5.5 V, -40 to 85 degC, 8-pin SOIC (D8), Green (RoHS & no Sb/Br); Manufacturer: Texas Instruments; IIB(Max)(pA): 10; Iq per channel(Max)(mA): 8.5; Number of Channels: 1; CMRR(Min)(dB): 66; Slew Rate(Typ)(V/us): 22; Total Supply Voltage(Max)(+5V is 5, +/-5V is 10): 5.5; Sub Family: Low Input Bias Current Amp (<=10pA), Low Offset Voltage Amplifier (<=500uV), Low Supply Voltage Amplifier (<=2.7V), Precision Amplifier; Offset Drift(Typ)(uV/C): 4; Total Supply Voltage(Min)(+5V is 5, +/-5V is 10): 2.7; Vn at 1kHz(Typ)(nV/rtHz): 18; PackageReference: D0008A; PackageDescription: 8-Pin Plastic Small Outline, Body 4.9 x 3.9 mm, Pitch 1.27 mm; Code_JEDEC: MS-012; Eco-Plan: Green (RoHS & no Sb/Br); DatasheetVersion: SBOS099C; Vio (25C)(Max)(mV): 1; ComponentLink1URL: http://www.ti.com/; ComponentLink3URL: http://www.ti.com/litv/pdf/msoi002j; PackageVersion: 4040047-3/M, 06/2011; ComponentLink3Description: Package Specification; ComponentLink2URL: http://www.ti.com/general/docs/lit/getliterature.tsp?genericPartNumber=OPA350&fileType=pdf; PartNumber: OPA350UA; ComponentLink2Description: Datasheet; ComponentLink1Description: Manufacturer URL; Mounting Technology: Surface Mount; Part Number: OPA350UA; Supplier 1: Mouser; Supplier Part Number 1: 595-OPA350UA
footprint D0008A_M (SOIC, 8-Leads, Body 5x4mm, Pitch 1.27mm, IPC Low Density)
footprint D0008A_N (SOIC, 8-Leads, Body 5x4mm, Pitch 1.27mm, IPC Medium Density)
footprint D0008A_L (SOIC, 8-Leads, Body 5x4mm, Pitch 1.27mm, IPC High Density)
part A pins: 2 IN- (in), 3 IN+ (in), 4 V- (power), 6 OUT (out), 7 V+ (power)
part B pins: 1 NC, 5 NC, 8 NC

## CXA-040000-2F8F31
designator ZQ?  Frequency Tolerance: ±10ppm  Frequency: 40MHz  (hidden comment: CXA-040000-2F8F31)
40MHz 10pF ±10ppm, 60Ohm ESR, 100uW DL Crystal Quartz; Manufacturer: Aker; Standard Lead Time: NONE; Component Status: Released; Part Number: CXA-040000-2F8F31; Part Type: Crystal; Component Type: SMD; Load Capacitance: 10pF; Frequency Stability: ±10ppm; Temperature Range: -20°C ~ 75 °C; ComponentLink1URL: \\altiumdb.ajax.local\files\Datasheet\Oscillators\CXA-040000-2F8F31-1.pdf; Replacement: NONE; ComponentLink1Description: Datasheet; Price: 0,17
footprint CXA-221_REC
pins: 1 XTAL1, 2 NC1, 3 XTAL2, 4 NC2

## DAC63004YBHR
designator U?
Digital to Analog Converters - DAC Ultra-low-power four -channel 12-bit smar; Part Number: DAC63004YBHR; Resolution: 12 bit; Number of Channels: 4 Channel; Settling Time: 25 us; Output Type: Current, Voltage; Interface Type: I2C, SPI; Supply Voltage - Max: 5.5 V; Supply Voltage - Min: 1.8 V; Supplier 1: Mouser; Supplier Part Number 1: 595-DAC63004YBHR; ComponentLink1Description: Datasheet; ComponentLink1URL: https://www.ti.com/lit/ds/symlink/dac53004w.pdf?ts=1756086251058&ref_url=https%253A%252F%252Fwww.ti.com%252Fproduct%252FDAC53004W; Mounting Style: SMD/SMT; Package/Case: DSBGA-16; Product: Digital to Analog Converters; Product Type: DACs - Digital to Analog Converters; Subcategory: Data Converter ICs; Price, max: 4,74 €; Price, min: 2,65 €
footprint BGA16C50P4X4_200X200X60
pins: A1 Vref (in), A2 Out_3 (out), A3 Out_2 (out), A4 GPIO/SDO (io), B1 VDD (power), B2 FB_3 (in), B3 FB_2 (in), B4 SCL/SYNC (in), C1 AGND (power), C2 FB_0 (in), C3 FB_1 (in), C4 A0/SDI  (io), D1 CAP (out), D2 Out_0 (out), D3 Out_1 (out), D4 SDA/SCLK (in)

## DFLS160-7
designator VD??  Package: PowerDI123  Voltage: 60V  (hidden comment: DFLS160-7)
Diode Schottky 60V 1A, Surface Mount PowerDI-123; Manufacturer: Diodes Incorporated; Component Status: Released; Marking: F17; Standard Lead Time: 16 Weeks; Vf: 0.5V @ 1A; Replacement: NONE; Part Number: DFLS160-7; Part Type: Schottky; Component Type: SMD; Current: 1A; Temperature Range: -65°C ~ 150°C; ComponentLink1URL: https://www.diodes.com/assets/Datasheets/ds30548.pdf; Supplier 1: Digi-Key; Supplier Part Number 1: DFLS160DITR-ND; Price: 0.08565236; ComponentLink1Description: Datasheet
footprint POWERDI-123
pins: AN, CA

## Diode-Schottky
designator VD?, comment Package: SMA  Voltage: 60V  (hidden comment: SK56A-LTP)
Diode Schottky 60V 5A, SMA; Manufacturer: Micro Commercial Components; Marking: SK56A; Standard Lead Time: 12 Weeks; Vf: 750mV @ 5A; Replacement: NONE; Component Status: Released; Part Number: SK56A-LTP; Part Type: Schottky; Component Type: SMD; Current: 5A; Temperature Range: -55°C ~ 150°C; ComponentLink1URL: \\altiumdb.ajax.local\files\Datasheet\Diodes\SK52A-L-SK510A-L(DO-214AC).pdf; Supplier 1: Digi-Key; Supplier Part Number 1: SK56A-LTPMSTR-ND; ComponentLink1Description: Datasheet; Price: 0.06
footprint SMA_MED
footprint SMA_HI
pins: AN, CA

## DMT4011LFG-7
designator VT??  Id: 30A  Vds: 40V  Rds: 17.8mOhm  Package: PowerDI3333-8  (hidden comment: DMT4011LFG-7)
40V, 30A max N-Channel Enhancement MOSFET, 13.4Ohm @ Vgs = 4.5V; Manufacturer: Diodes Incorporated; Component Status: Prereleased; Standard Lead Time: 14 Weeks; Replacement: NONE; Part Number: DMT4011LFG-7; Part Type: N-Channel; Component Type: SMD; Temperature Range: -55°C ~ 150°C; ComponentLink1URL: https://www.diodes.com/assets/Datasheets/DMT4011LFG.pdf; Supplier 1: Mouser; Supplier Part Number 1: 621-DMT4011LFG-7; Price: 0.316; ComponentLink1Description: Datasheet
footprint PowerDI3333-8
pins: D Drain, G Gate, S Source

## DS1042-24-2017VBR16005
designator PB?  (value not drawn)
Tactile Switch 2.5x3mm, SMD, 160gf, Height 1.7mm, 50mA 12VDC; Manufacturer: Connfly; Replacement: NONE; Part Number: DS1042-24-2017VBR16005; Part Type: Switch / Tactile; Component Type: SMD; Temperature Range: -20°C ~ 70°C
footprint DS1042-24-2017VB
pins: 1, 2

## ECS-TXO-2016-33-160-TR
designator Y?
XTAL OSC TCXO 16MHZ 3.3V SMD; Manufacturer: ECS; Max Supply Voltage: 3.63V; Max Supply Current: 7mA; Stability: 2ppm; Min Supply Voltage: 2.97V; Load Capacitance: 15pF; Frequency: 16MHz; Device Class L1: Passive Components; Manufacturer Part Number: ECS-TXO-2016-33-160-TR; Digikey Description: XTAL OSC TCXO 16MHZ 3.3V SMD; Device Class L3: Oscillators; Category: Crys; Lead Free: Yes; Temperature: -40°C to +85°C; RoHS: TRUE; ComponentLink2Description: Datasheet; Octopart: https://octopart.com/ecs-txo-2016-33-160-tr-ecs+international-102811109; ComponentLink2URL: https://ecsxtal.com/store/pdf/ECS-TXO-2016.pdf; Temperature Range High: +85°C; Height: 0.8mm; Device Class L2: Crystals / Oscillators; Package: TXO-2016; Temperature Range Low: -40°C; Series: TXO-2016; Automotive: No; Part Number: ECS-TXO-2016-33-160-TR; Supplier 1: Mouser; Supplier Part Number 1: 520-TXO-2016-33-160T
footprint FP-TXO-2016-MFG
pins: 1 Tri-state, 2 Gnd (power), 3 Output (out), 4 Vdd (power)

## ESP32-S3FH4R2
designator D?  Package: QFN-56  (hidden comment: ESP32-S3FH4R2)
2.4GHz WiFi 802.11b/g/n, Bluetooth v5.0 Transceiver Module, 2 MB DRAM, 150 Mb/s max, QFN-56; Manufacturer: Espressif; Standard Lead Time: 11 Weeks; Component Status: Released; Replacement: NONE; Part Type: SoC / Bluetooth, Wi-Fi; Component Type: SMD; Temperature Range: -40°C ~ 105°C; ComponentLink1URL: https://www.espressif.com/sites/default/files/documentation/esp32-s3_datasheet_en.pdf; Supplier 1: Mouser; Supplier Part Number 1: 356-ESP32-S3FH4R2; Price: 2,4; ComponentLink1Description: Datasheet; Part Number: ESP32-S3FH4R2
footprint QFN-56_ESP32_7X7_EXP
pins: 1 LNA_IN (io), 2 VDD3P3, 3 VDD3P3, 4 CHIP_PU (in), 5 GPIO0/BOOT (io), 6 GPIO1 (io), 7 GPIO2 (io), 8 GPIO3/USB/JTAG (io), 9 GPIO4 (io), 10 GPIO5 (io), 11 GPIO6 (io), 12 GPIO7 (io), 13 GPIO8 (io), 14 GPIO9 (io), 15 GPIO10 (io), 16 GPIO11 (io), 17 GPIO12 (io), 18 GPIO13 (io), 19 GPIO14 (io), 20 VDD3P3_RTC, 21 XTAL_32K_P, 22 XTAL_32K_N, 23 GPIO17 (io), 24 GPIO18 (io), 25 USBD- /GPIO19 (io), 26 USBD+/GPIO20 (io), 27 GPIO21 (io), 28 SPICS1 (io), 29 VDD_SPI, 30 SPIHD (io), 31 SPIWP (io), 32 SPICS0 (io), 33 SPICLK (io), 34 SPIQ (io), 35 SPID (io), 36 SPICLK_N/GPIO48 (io), 37 SPICLK_P/GPIO47 (io), 38 GPIO33 (io), 39 GPIO34 (io), 40 GPIO35 (io), 41 GPIO36 (io), 42 GPIO37 (io), 43 GPIO38 (io), 44 MTCK/GPIO39 (io), 45 MTDO/GPIO40 (io), 46 VDD3P3_CPU, 47 MTDI/GPIO41 (io), 48 MTMS/GPIO42 (io), 49 UOTXD/GPIO43 (io), 50 UORXD/GPIO44 (io), 51 GPIO45/SPI_Voltage (io), 52 GPIO46/BOOT (io), 53 XTAL_N, 54 XTAL_P, 55 VDDA, 56 VDDA, 57 EPAD

## Fiducial
designator FID?  (value not drawn)  (no BOM)
IPC Compliant Fiducial Mark, 1mm; Replacement: NONE; Part Number: Fiducial; Component Type: SMD; Part Type: PCB Element; Temperature Range: NONE
footprint Fiducial_10-20

## General-4-Pin-MP
designator X?, comment W1359-04PATRI0R
1.25mm Wire-to-Board Header, Vertical, SMT, 4 pin; Manufacturer: Hsuan Mao Technology; Component Status: Released; Replacement: 53398-0471; Part Number: W1359-04PATRI0R; Part Type: Wire-to-Board / 1.25mm; Component Type: SMD; Temperature Range: -40°C ~ 85°C; Price: 0.06
footprint W1359-04PATXI0R_REC
footprint W1359-04PATXI0R_DBG
pins: 1, 2, 3, 4, MP MountPad

## GENERIC-CAP-0402
designator C?, comment Package: 0402  Voltage: NONE  (hidden comment: RSVD)  (no BOM)
0402 Capacitor; Part Number: GENERIC-CAP-0402; Part Type: Ceramic / 0402; Manufacturer: NONE; Component Type: SMD; Standard Lead Time: NONE; ComponentLink1URL: NONE; ComponentLink1Description: Datasheet; Value: RSVD; Dielectric Type: NONE
footprint C_CERAMIC_0402_MED
footprint C_CERAMIC_0402_HI
footprint RLC_0402_MED_UNI
pins: 1, 2

## GENERIC-RES-0402
designator R?, comment Package: 0402  (hidden comment: RSVD)  (no BOM)
0402 Resistor; Part Number: GENERIC-RES-0402; Manufacturer: NONE; Power Rating: 0.062W; Component Type: SMD; Voltage: NONE; Temperature Stability: NONE; ComponentLink1URL: NONE; ComponentLink1Description: Datasheet; Value: RSVD
footprint R_ANY_CHIP_0402_MED
footprint R_ANY_CHIP_0402_HI
footprint RLC_0402_MED_UNI
pins: 1, 2

## GRM155C80J106ME11D
designator C?, comment Package: 0402  Voltage: 6.3V  Dielectric Type: X6S  (hidden comment: 10uF)
10uF 6.3V X6S ±20% 0402 Ceramic Capacitor RoHS; Part Number: GRM155C80J106ME11D; Manufacturer: Murata Electronics; Component Status: Released; Standard Lead Time: 15 Weeks; Replacement: NONE; Part Type: Ceramic / X6S / 0402; Component Type: SMD; Temperature Range: -55°C ~ 105°C; Tolerance: ±20%; ComponentLink1URL: https://search.murata.co.jp/Ceramy/image/img/A01X/G101/ENG/GRM155C80J106ME11-01.pdf; Supplier 1: Digi-Key; Supplier Part Number 1: 490-13233-1-ND; Price: 0.01104; ComponentLink1Description: Datasheet; Value: 10uF
footprint C_CERAMIC_0402_MED
footprint C_CERAMIC_0402_HI
pins: 1, 2

## GRM155R60J475ME47
designator C?, comment Package: 0402  Voltage: 6.3V  Dielectric Type: X5R  (hidden comment: 4.7uF)
4.7uF 6.3V X5R ±20% 0402 Ceramic Capacitor RoHS; Part Number: GRM155R60J475ME47; Manufacturer: Murata Electronics; Component Status: Released; Standard Lead Time: 15 Weeks; Replacement: CC0402MRX5R5BB475; Part Type: Ceramic / X5R / 0402; Component Type: SMD; Temperature Range: -55°C ~ 85°C; Tolerance: ±20%; ComponentLink1URL: https://search.murata.co.jp/Ceramy/image/img/A01X/G101/ENG/GRM155R60J475ME47-01.pdf; Supplier 1: Digi-Key; Supplier Part Number 1: 490-5915-2-ND; Price: 0.013; ComponentLink1Description: Datasheet; Value: 4.7uF
footprint C_CERAMIC_0402_MED
footprint C_CERAMIC_0402_HI
pins: 1, 2

## GRM155R61E105KA12D
designator C?, comment Package: 0402  Voltage: 25V  Dielectric Type: X5R  (hidden comment: 1uF)
1uF 25V Х5R ±10% 0402 Ceramic Capacitor RoHS; Part Number: GRM155R61E105KA12D; Manufacturer: Murata Electronics; Standard Lead Time: 15 Weeks; Component Status: Released; Replacement: NONE; Part Type: Ceramic / X5R / 0402; Component Type: SMD; Temperature Range: -55°C ~ 85°C; Tolerance: ±10%; ComponentLink1URL: https://search.murata.co.jp/Ceramy/image/img/A01X/G101/ENG/GRM155R61E105KA12-01.pdf; Supplier 1: Digi-Key; Supplier Part Number 1: 490-10017-1-ND; Price: 0.0033; ComponentLink1Description: Datasheet; Value: 1uF
footprint C_CERAMIC_0402_MED
footprint C_CERAMIC_0402_HI
pins: 1, 2

## GRM155R61E105KA12D_1
designator C?, comment Package: 0402  Voltage: 25V  Dielectric Type: X5R  (hidden comment: 1uF)
1uF 25V Х5R ±10% 0402 Ceramic Capacitor RoHS; Part Number: GRM155R61E105KA12D; Manufacturer: Murata Electronics; Standard Lead Time: 15 Weeks; Component Status: Released; Replacement: NONE; Part Type: Ceramic / X5R / 0402; Component Type: SMD; Temperature Range: -55°C ~ 85°C; Tolerance: ±10%; ComponentLink1URL: https://search.murata.co.jp/Ceramy/image/img/A01X/G101/ENG/GRM155R61E105KA12-01.pdf; Supplier 1: Digi-Key; Supplier Part Number 1: 490-10017-1-ND; Price: 0.0033; ComponentLink1Description: Datasheet; Value: 1uF
footprint C_CERAMIC_0402_MED
footprint C_CERAMIC_0402_HI
pins: 1, 2

## GRM155R71E104KE14D
designator C?, comment Package: 0402  Voltage: 25V  Dielectric Type: X7R  (hidden comment: 0.1uF)
100nF 25V X7R ±10% 0402 Ceramic Capacitor RoHS; Part Number: GRM155R71E104KE14D; Manufacturer: Murata Electronics; Standard Lead Time: 15 Weeks; Component Status: Released; Replacement: NONE; Ajax_1С_Lifecycle: Archived; Part Type: Ceramic / X7R / 0402; Component Type: SMD; Temperature Range: -55°C ~ 125°C; Tolerance: ±10%; ComponentLink1URL: https://search.murata.co.jp/Ceramy/image/img/A01X/G101/ENG/GRM155R71E104KE14-01.pdf; Supplier 1: Digi-Key; Supplier Part Number 1: 490-10698-1-ND; Price: 0.005; ComponentLink1Description: Datasheet; Value: 0.1uF
footprint C_CERAMIC_0402_MED
footprint C_CERAMIC_0402_HI
pins: 1, 2

## GRM155R71E473KA88D
designator C?, comment Package: 0402  Voltage: 25V  Dielectric Type: X7R  (hidden comment: 47nF)
47nF 25V X7R ±10% 0402 Ceramic Capacitor RoHS; Part Number: GRM155R71E473KA88D; Manufacturer: Murata Electronics; Standard Lead Time: 15 Weeks; Replacement: NONE; Component Status: Released; Part Type: Ceramic / X7R / 0402; Component Type: SMD; Temperature Range: -55°C ~ 125°C; Tolerance: ±10%; ComponentLink1URL: https://search.murata.co.jp/Ceramy/image/img/A01X/G101/ENG/GRM155R71E473KA88-01.pdf; Supplier 1: Digi-Key; Supplier Part Number 1: 490-3254-2-ND; ComponentLink1Description: Datasheet; Price: 0.00133; Value: 47nF
footprint C_CERAMIC_0402_MED
footprint C_CERAMIC_0402_HI
pins: 1, 2